# Altium footprint library Passive.PcbLib: 12 footprints
Each footprint in its own frame and in the unit in brackets; x right, y up, seen from the top. Pads: shape width x height; smd on the part's side, far side on the other; paste and mask are expansions set on the pad; w line width, h text height; cw(c..) or ccw(c..) is an arc to the next point about the centre after c.
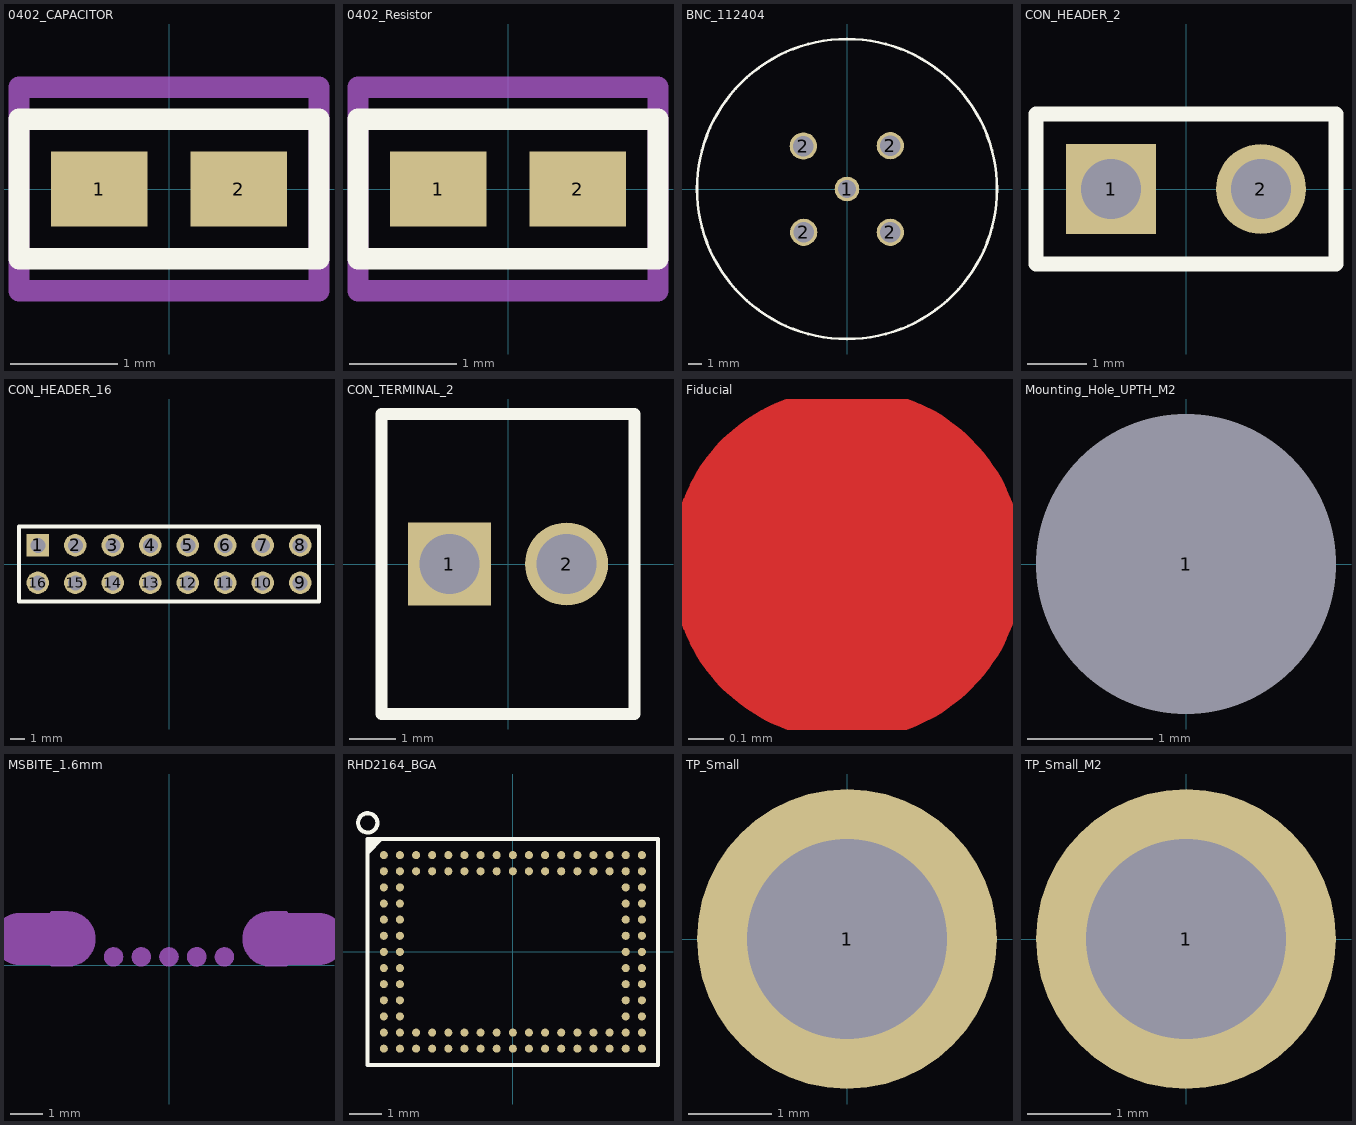
[diagram p0: the footprints below, top view; thin cyan lines are the x and y axes]

## 0402_CAPACITOR [mm]
pads (2):
  rect 0.9x0.7 smd: 1(-0.65,0) 2(0.65,0)
Top Overlay:
  lines w0.2: -1.4,-0.65 -1.4,0.65 1.4,0.65 1.4,-0.65 -1.4,-0.65
Top Courtyard:
  lines w0.2: -1.4,-0.95 1.4,-0.95 1.4,0.95 -1.4,0.95 -1.4,-0.95

## 0402_Resistor [mm]
pads (2):
  rect 0.9x0.7 smd: 1(-0.65,0) 2(0.65,0)
Top Overlay:
  lines w0.2: -1.4,-0.65 -1.4,0.65 1.4,0.65 1.4,-0.65 -1.4,-0.65
Top Courtyard:
  lines w0.2: -1.4,-0.95 1.4,-0.95 1.4,0.95 -1.4,0.95 -1.4,-0.95

## BNC_112404 [mm] "BNC Connector Jack, Female Socket 50 Ohms Through Hole Solder"
pads (5):
  round 1.8 hole 1.3: 1(0,0)
  round 2 hole 1.5: 2(-3.2,3.15) 2(-3.175,-3.175) 2(3.175,-3.175) 2(3.175,3.175)
Top Overlay:
  circle w0.2: c0,0 r11

## CON_HEADER_2 [mil] "0.1\" pitch"
pads (2):
  rect 60x60 hole 40: 1(-50,0)
  round 60 hole 40: 2(50,0)
Top Overlay:
  lines w10: -100,-50 100,-50 100,50 -100,50 -100,-50

## CON_HEADER_16 [mil] "0.1\" pitch"
pads (16):
  rect 60x60 hole 40: 1(-350,50)
  round 60 hole 40: 2(-250,50) 3(-150,50) 4(-50,50) 5(50,50) 6(150,50) 7(250,50) 8(350,50) 9(350,-50) 10(250,-50) 11(150,-50) 12(50,-50) 13(-50,-50) 14(-150,-50) 15(-250,-50) 16(-350,-50)
Top Overlay:
  lines w10: -400,-100 400,-100 400,100 -400,100 -400,-100

## CON_TERMINAL_2 [mm] "0.1\" pitch"
pads (2):
  rect 1.8x1.8 hole 1.3: 1(-1.27,0)
  round 1.8 hole 1.3: 2(1.27,0)
Top Overlay:
  lines w0.254: -2.74,-3.25 -2.74,3.25 2.74,3.25 2.74,-3.25 -2.74,-3.25

## Fiducial [mm] "Fiducial Marker"
Top Layer:
  circle w0.5: c0,0 r0.25
Top Solder:
  circle w0.85: c0,0 r0.425

## Mounting_Hole_UPTH_M2 [mm]
pads (1):
  round 1 hole 2.4 unplated: 1(0,0)

## MSBITE_1.6mm [mm] "Mousebite - 1.6 mm spacing"
Route Tool Path:
  circle w0.25: c0,0.25 r0.125
  circle w0.25: c0.85,0.25 r0.125
  circle w0.25: c-0.85,0.25 r0.125
  circle w0.25: c1.7,0.25 r0.125
  circle w0.25: c-1.7,0.25 r0.125
  lines w1.6: -4.6,0.8 -3.1,0.8 ; 3.1,0.8 4.6,0.8
Manufacturing Notes:
  circle w0.1: c0.85,0.25 r0.255
  circle w0.1: c1.7,0.25 r0.25
  circle w0.1: c0,0.25 r0.25
  circle w0.1: c-0.85,0.25 r0.25
  circle w0.1: c-1.7,0.25 r0.25
  lines w0.1: -3.6,0 -3.1,0 ccw(c-3.1,0.8) -3.1,1.6 -3.6,1.6 ; -3.5,0.8 -2.7,0.8 ; -3.1,0.4 -3.1,1.2 ; 2.7,0.8 3.5,0.8 ; 3.1,0.4 3.1,1.2 ; 3.6,0 3.1,0 cw(c3.1,0.8) 3.1,1.6 3.6,1.6

## RHD2164_BGA [mm]
pads (104):
  rrect100% 0.25x0.25 smd: A1(-4,3) A2(-3.5,3) A3(-3,3) A4(-2.5,3) A5(-2,3) A6(-1.5,3) A7(-1,3) A8(-0.5,3) A9(0,3) A10(0.5,3) A11(1,3) A12(1.5,3) A13(2,3) A14(2.5,3) A15(3,3) A16(3.5,3) A17(4,3) B1(-4,2.5) B2(-3.5,2.5) B3(-3,2.5) B4(-2.5,2.5) B5(-2,2.5) B6(-1.5,2.5) B7(-1,2.5) B8(-0.5,2.5) B9(0,2.5) B10(0.5,2.5) B11(1,2.5) B12(1.5,2.5) B13(2,2.5) B14(2.5,2.5) B15(3,2.5) B16(3.5,2.5) B17(4,2.5) C1(-4,2) C2(-3.5,2) C16(3.5,2) C17(4,2) D1(-4,1.5) D2(-3.5,1.5) D16(3.5,1.5) D17(4,1.5) E1(-4,1) E2(-3.5,1) E16(3.5,1) E17(4,1) F1(-4,0.5) F2(-3.5,0.5) F16(3.5,0.5) F17(4,0.5) G1(-4,0) G2(-3.5,0) G16(3.5,0) G17(4,0) H1(-4,-0.5) H2(-3.5,-0.5) H16(3.5,-0.5) H17(4,-0.5) J1(-4,-1) J2(-3.5,-1) J16(3.5,-1) J17(4,-1) K1(-4,-1.5) K2(-3.5,-1.5) K16(3.5,-1.5) K17(4,-1.5) L1(-4,-2) L2(-3.5,-2) L16(3.5,-2) L17(4,-2) M1(-4,-2.5) M2(-3.5,-2.5) M3(-3,-2.5) M4(-2.5,-2.5) M5(-2,-2.5) M6(-1.5,-2.5) M7(-1,-2.5) M8(-0.5,-2.5) M9(0,-2.5) M10(0.5,-2.5) M11(1,-2.5) M12(1.5,-2.5) M13(2,-2.5) M14(2.5,-2.5) M15(3,-2.5) M16(3.5,-2.5) M17(4,-2.5) N1(-4,-3) N2(-3.5,-3) N3(-3,-3) N4(-2.5,-3) N5(-2,-3) N6(-1.5,-3) N7(-1,-3) N8(-0.5,-3) N9(0,-3) N10(0.5,-3) N11(1,-3) N12(1.5,-3) N13(2,-3) N14(2.5,-3) N15(3,-3) N16(3.5,-3) N17(4,-3)
Top Overlay:
  circle w0.127: c-4.5,4 r0.3
  region: -4.5,3.5 -4.5,3 -4,3.5
  lines w0.127: -4.5,-3.5 4.5,-3.5 4.5,3.5 -4.5,3.5 -4.5,-3.5

## TP_Small [mm]
pads (1):
  round 3.6 / inner rect 0.9x0.7 / far side round 3.6 hole 2.4: 1(0,0)

## TP_Small_M2 [mm]
pads (1):
  round 3.6 hole 2.4: 1(0,0)